# EAGLE library part OPT3001IDNPRQ1 (library OPT3001IDNPRQ1)
Ambient Light Sensors Automotive Digital Ambient Light Sensor (ALS) With High-Precision Human-Eye Response 6-USON -40 to 85 Source: Datasheet <http://www.ti.com/lit/ds/symlink/opt3001-q1.pdf>
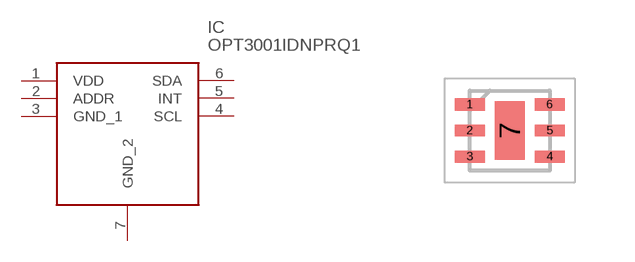
[diagram p0: symbol with the pads of SON65P200X200X65-7N; footprint SON65P200X200X65-7N]

Designator prefix IC

## OPT3001IDNPRQ1 (Arrow_Part_Number: OPT3001IDNPRQ1; Arrow_Price-Stock: https://www.arrow.com/en/products/opt3001idnprq1/texas-instruments?utm_currency=USD&region=nac; Description: Ambient Light Sensors Automotive Digital Ambient Light Sensor (ALS) With High-Precision Human-Eye Response 6-USON -40 to 85; Height: 0.65mm; Manufacturer_Name: Texas Instruments; Manufacturer_Part_Number: OPT3001IDNPRQ1; Mouser_Part_Number: 595-OPT3001IDNPRQ1; Mouser_Price-Stock: https://www.mouser.co.uk/ProductDetail/Texas-Instruments/OPT3001IDNPRQ1?qs=u4fy%2FsgLU9PFQBSq8%2FiUeQ%3D%3D)  [SON65P200X200X65-7N]
1  VDD
2  ADDR
3  GND_1
4  SCL
5  INT
6  SDA
7  GND_2

## Footprint SON65P200X200X65-7N (pad centres in mm)
OPT3001IDNPRQ1-1
smd 0.75 x 0.3: 1 -1,0.65; 2 -1,0; 3 -1,-0.65; 4 1,-0.65; 5 1,0; 6 1,0.65
smd 0.75 x 1.45: 7 0,0